# EAGLE library part A162 (library SWI_COMMONS)
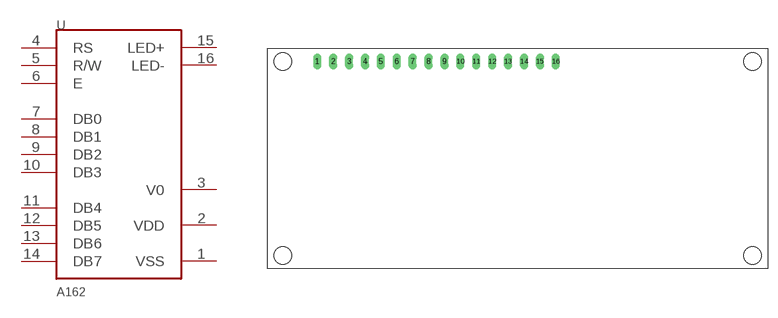
[diagram p4: symbol with the pads of A162; footprint A162]

Designator prefix -

## A162  [A162]
1  VSS
2  VDD
3  V0
4  RS
5  R/W
6  E
7  DB0
8  DB1
9  DB2
10  DB3
11  DB4
12  DB5
13  DB6
14  DB7
15  LED+
16  LED-

## Footprint A162 (pad centres in mm)
drill 0.8 long: 1 0,0; 2 2.54,0; 3 5.08,0; 4 7.62,0; 5 10.16,0; 6 12.7,0; 7 15.24,0; 8 17.78,0; 9 20.32,0; 10 22.86,0; 11 25.4,0; 12 27.94,0; 13 30.48,0; 14 33.02,0; 15 35.56,0; 16 38.1,0
hole 2.8 at -5.5,0
hole 2.8 at -5.5,-31
hole 2.8 at 69.5,0
hole 2.8 at 69.5,-31